# EAGLE library part PHB_1MM27_2X17_* (library _hhn_con_pinhead_box_1mm27)
Pin Header Box-Type, 1.27mm/0.5"/50mil Pitch, 2x17 Circuits Note: see library description for an important note about THT-version
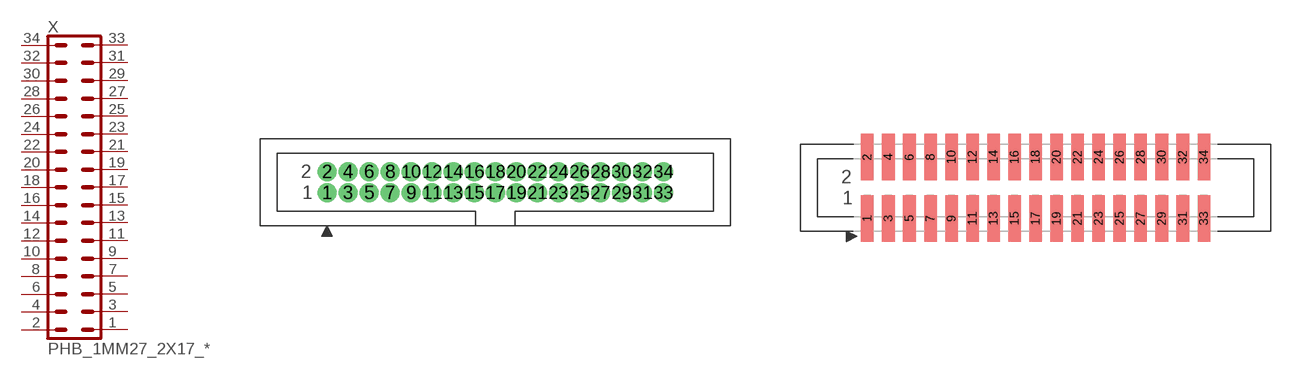
[diagram p9: symbol with the pads of PHB_1MM27_2X17_SNT; footprints PHB_1MM27_2X17_SNT, PHB_1MM27_2X17_SNS]

Designator prefix X

## PHB_1MM27_2X17_SNT  [PHB_1MM27_2X17_SNT]
1  1  pas
2  2  pas
3  3  pas
4  4  pas
5  5  pas
6  6  pas
7  7  pas
8  8  pas
9  9  pas
10  10  pas
11  11  pas
12  12  pas
13  13  pas
14  14  pas
15  15  pas
16  16  pas
17  17  pas
18  18  pas
19  19  pas
20  20  pas
21  21  pas
22  22  pas
23  23  pas
24  24  pas
25  25  pas
26  26  pas
27  27  pas
28  28  pas
29  29  pas
30  30  pas
31  31  pas
32  32  pas
33  33  pas
34  34  pas

## PHB_1MM27_2X17_SNS  [PHB_1MM27_2X17_SNS]
Pads as for PHB_1MM27_2X17_SNT

## Footprint PHB_1MM27_2X17_SNT (pad centres in mm)
Pin Header Box-Type, 1.27mm Pitch, 2x17 circuits, Straight, No Locking, THT Important Note regarding to THT-versions: see description of library
drill 0.65 round: 1 -10.16,-0.635; 2 -10.16,0.635; 3 -8.89,-0.635; 4 -8.89,0.635; 5 -7.62,-0.635; 6 -7.62,0.635; 7 -6.35,-0.635; 8 -6.35,0.635; 9 -5.08,-0.635; 10 -5.08,0.635; 11 -3.81,-0.635; 12 -3.81,0.635; 13 -2.54,-0.635; 14 -2.54,0.635; 15 -1.27,-0.635; 16 -1.27,0.635; 17 0,-0.635; 18 0,0.635; 19 1.27,-0.635; 20 1.27,0.635; 21 2.54,-0.635; 22 2.54,0.635; 23 3.81,-0.635; 24 3.81,0.635; 25 5.08,-0.635; 26 5.08,0.635; 27 6.35,-0.635; 28 6.35,0.635; 29 7.62,-0.635; 30 7.62,0.635; 31 8.89,-0.635; 32 8.89,0.635; 33 10.16,-0.635; 34 10.16,0.635

## Footprint PHB_1MM27_2X17_SNS (pad centres in mm)
Pin Header Box-Type, 1.27mm Pitch, 2x17 circuits, Straight, No Locking, SMT
smd 0.76 x 2.8: 1 -10.16,-1.85; 2 -10.16,1.85; 3 -8.89,-1.85; 4 -8.89,1.85; 5 -7.62,-1.85; 6 -7.62,1.85; 7 -6.35,-1.85; 8 -6.35,1.85; 9 -5.08,-1.85; 10 -5.08,1.85; 11 -3.81,-1.85; 12 -3.81,1.85; 13 -2.54,-1.85; 14 -2.54,1.85; 15 -1.27,-1.85; 16 -1.27,1.85; 17 0,-1.85; 18 0,1.85; 19 1.27,-1.85; 20 1.27,1.85; 21 2.54,-1.85; 22 2.54,1.85; 23 3.81,-1.85; 24 3.81,1.85; 25 5.08,-1.85; 26 5.08,1.85; 27 6.35,-1.85; 28 6.35,1.85; 29 7.62,-1.85; 30 7.62,1.85; 31 8.89,-1.85; 32 8.89,1.85; 33 10.16,-1.85; 34 10.16,1.85